# Altium footprint library SM_14-SOP.PcbLib: 1 footprints
Each footprint in its own frame and in the unit in brackets; x right, y up, seen from the top. Pads: shape width x height; smd on the part's side, far side on the other; paste and mask are expansions set on the pad; w line width, h text height; cw(c..) or ccw(c..) is an arc to the next point about the centre after c.
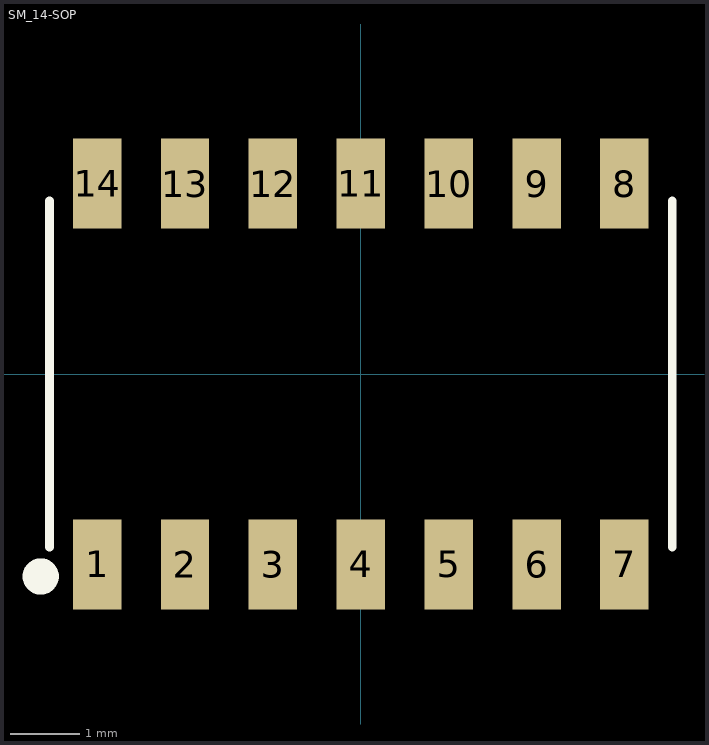
[diagram p0: the footprint, top view; thin cyan lines are the x and y axes]

## SM_14-SOP [mm]
height 1.75
pads (14):
  rect 0.7x1.3 smd mask+0.076: 1(-3.81,-2.75) 2(-2.54,-2.75) 3(-1.27,-2.75) 4(0,-2.75) 5(1.27,-2.75) 6(2.54,-2.75) 7(3.81,-2.75) 8(3.81,2.75) 9(2.54,2.75) 10(1.27,2.75) 11(0,2.75) 12(-1.27,2.75) 13(-2.54,2.75) 14(-3.81,2.75)
Top Overlay:
  circle w0.381: c-4.625,-2.925 r0.071
  lines w0.127: -4.5,-2.5 -4.5,2.5 ; 4.5,-2.5 4.5,2.5
3D body "User Library-14-SOP.STEP": height 1.8, standoff 0, extent -4.28,-3 4.28,3